# Altium footprint library Components - 09.08.24 - 21.PcbLib: 1 footprints
Each footprint in its own frame and in the unit in brackets; x right, y up, seen from the top. Pads: shape width x height; smd on the part's side, far side on the other; paste and mask are expansions set on the pad; w line width, h text height; cw(c..) or ccw(c..) is an arc to the next point about the centre after c.
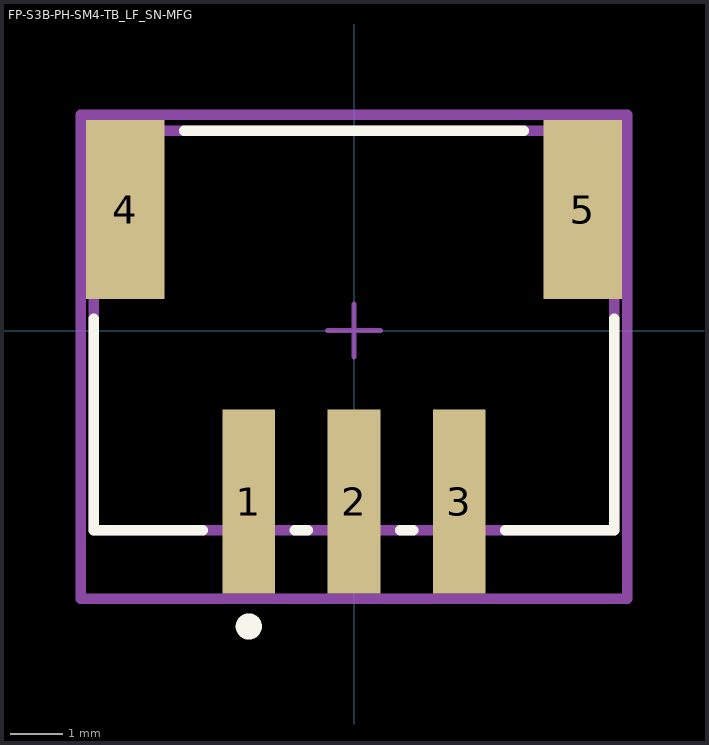
[diagram p0: the footprint, top view; thin cyan lines are the x and y axes]

## FP-S3B-PH-SM4-TB_LF_SN-MFG [mm]
pads (5):
  rect 1x3.5 smd paste+0 mask+0: 1(-2,-3.25) 2(0,-3.25) 3(2,-3.25)
  rect 1.5x3.4 smd paste+0 mask+0: 4(-4.35,2.3) 5(4.35,2.3)
Top Overlay:
  circle w0.25: c-2,-5.625 r0.125
  lines w0.2: -4.95,0.225 -4.95,-3.8 -2.875,-3.8 ; -3.225,3.8 3.225,3.8 ; -1.125,-3.8 -0.875,-3.8 ; 0.875,-3.8 1.125,-3.8 ; 2.875,-3.8 4.95,-3.8 4.95,0.225
Top Assembly:
  lines w0.2: -5.2,-5.1 -5.2,4.1 5.2,4.1 5.2,-5.1 -5.2,-5.1
  text ".Designator" at 0,-0.501 h1
Top 3D Body:
  lines w0.2: -4.95,-3.8 -4.95,3.8 4.95,3.8 4.95,-3.8 -4.95,-3.8
Top Courtyard:
  lines w0.2: -5.2,-5.1 -5.2,4.1 5.2,4.1 5.2,-5.1 -5.2,-5.1
Top Component Center:
  lines w0.1: -0.5,0 0.5,0 ; 0,-0.5 0,0.5
3D body "Conn_JST_S3B-PH-SM4-TB_LF_SN_eec.STEP": height 0.25, standoff 0, extent -5.2,-5.1 5.2,4.1